# Altium schematic symbol library ATWILC3000-MR110UA.SchLib: 1 symbol
Pins are listed as number, name and electrical type; pins without a type are passive.

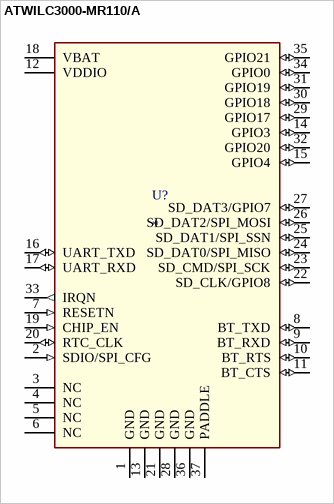
[diagram p0: symbol ATWILC3000-MR110/A]

## ATWILC3000-MR110/A
designator U?
footprint ATWILC3000-MR110_MCH
pins: 1 GND (power), 2 SDIO/SPI_CFG (in), 3 NC, 4 NC, 5 NC, 6 NC, 7 RESETN (in), 8 BT_TXD (io), 9 BT_RXD (io), 10 BT_RTS (io), 11 BT_CTS (io), 12 VDDIO (power), 13 GND (power), 14 GPIO3 (io), 15 GPIO4 (io), 16 UART_TXD (io), 17 UART_RXD (io), 18 VBAT (power), 19 CHIP_EN (in), 20 RTC_CLK (io), 21 GND (power), 22 SD_CLK/GPIO8 (io), 23 SD_CMD/SPI_SCK (io), 24 SD_DAT0/SPI_MISO (io), 25 SD_DAT1/SPI_SSN (io), 26 SD_DAT2/SPI_MOSI (io), 27 SD_DAT3/GPIO7 (io), 28 GND (power), 29 GPIO17 (io), 30 GPIO18 (io), 31 GPIO19 (io), 32 GPIO20 (io), 33 IRQN (out), 34 GPIO0 (io), 35 GPIO21 (io), 36 GND (power), 37 PADDLE (power)